# EAGLE library part BMP085 (library BMP085)
BMP085 Digital pressure sensor
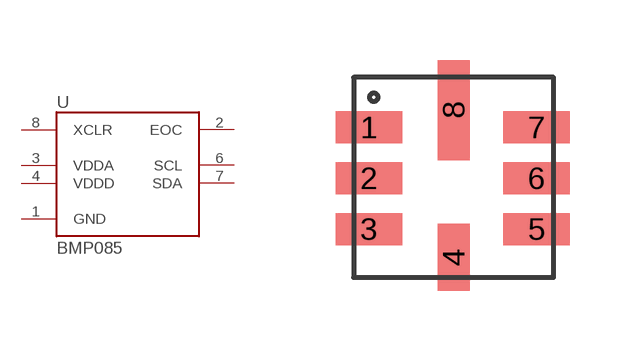
[diagram p0: symbol with the pads of BMP085; footprint BMP085]

Designator prefix -

## BMP085  [BMP085]
1  GND  pwr
2  EOC  out
3  VDDA  pwr
4  VDDD  pwr
5  NC  nc
6  SCL  in
7  SDA
8  XCLR  in

## Footprint BMP085 (pad centres in mm)
smd 1.67 x 0.8: 1 -2.159,1.206; 2 -2.159,-0.064; 3 -2.159,-1.333; 5 2.032,-1.333; 6 2.032,-0.064; 7 2.032,1.206
smd 0.8 x 1.67: 4 -0.04,-2.04
smd 0.8 x 2.5: 8 -0.04,1.643